# Altium footprint library Diod.PcbLib: 392 footprints (part 24 of 25)
Each footprint in its own frame and in the unit in brackets; x right, y up, seen from the top. Pads: shape width x height; smd on the part's side, far side on the other; paste and mask are expansions set on the pad; w line width, h text height; cw(c..) or ccw(c..) is an arc to the next point about the centre after c.
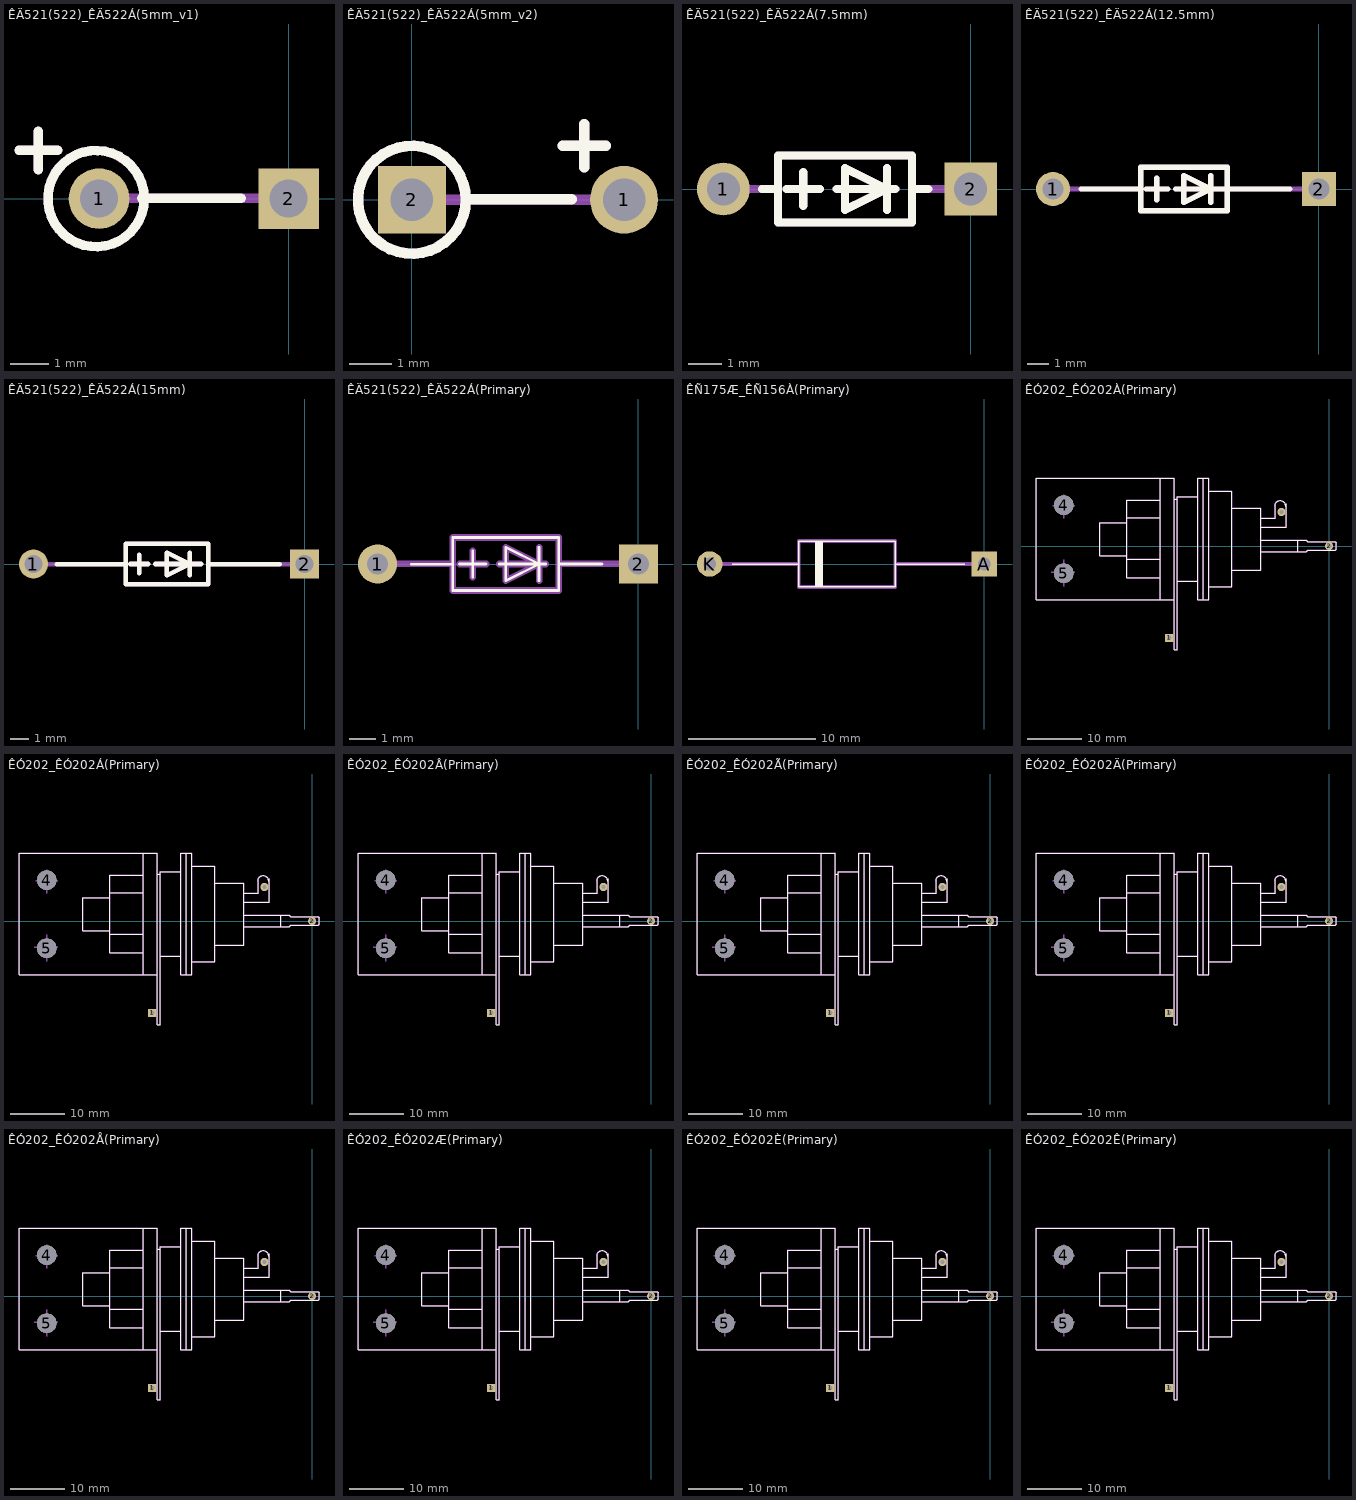
[diagram p23: the footprints below, top view; thin cyan lines are the x and y axes]

## ÊÄ521(522)_ÊÄ522Á(5mm_v1) [mm]
pads (2):
  round 1.6 hole 1: 1(-5,0)
  rect 1.6x1.6 hole 1: 2(0,0)
Top Overlay:
  circle w0.25: c-5.08,0 r1.27
  lines w0.25: -7.112,1.27 -6.096,1.27 ; -6.604,0.762 -6.604,1.778 ; -3.877,0.007 -1.251,0.007
Mechanical 1:
  circle w0.25: c-5.08,0 r1.27
  lines w0.25: -7.112,1.27 -6.096,1.27 ; -6.604,0.762 -6.604,1.778 ; -4.77,0.01 -0.42,0.01

## ÊÄ521(522)_ÊÄ522Á(5mm_v2) [mm]
pads (2):
  round 1.6 hole 1: 1(5,0)
  rect 1.6x1.6 hole 1: 2(0,0)
Top Overlay:
  circle w0.25: c0,0 r1.27
  lines w0.25: 1.266,0.008 3.761,0.008 ; 3.556,1.27 4.572,1.27 ; 4.064,0.762 4.064,1.778
Mechanical 1:
  circle w0.25: c0,0 r1.27
  lines w0.25: 0,0 4.5,0 ; 3.556,1.27 4.572,1.27 ; 4.064,0.762 4.064,1.778

## ÊÄ521(522)_ÊÄ522Á(7.5mm) [mm]
pads (2):
  round 1.6 hole 1: 1(-7.5,0)
  rect 1.6x1.6 hole 1: 2(0,0)
Top Overlay:
  lines w0.25: -6.328,-0.001 -5.842,0 ; -5.588,0 -4.572,0 ; -5.08,-0.508 -5.08,0.508 ; -4.064,0 -2.286,0 ; -2.54,-0.635 -2.54,0.635 ; -1.778,0 -1.284,-0.001 ; -5.842,-1.016 -1.778,-1.016 -1.778,1.016 -5.842,1.016 -5.842,-1.016 ; -3.81,-0.635 -2.54,0 -3.81,0.635 -3.81,-0.635
Mechanical 1:
  lines w0.25: -7.499,-0.001 -5.842,0 ; -5.588,0 -4.572,0 ; -5.08,-0.508 -5.08,0.508 ; -4.064,0 -2.286,0 ; -2.54,-0.635 -2.54,0.635 ; -1.778,0 0.001,-0.001 ; -5.842,-1.016 -1.778,-1.016 -1.778,1.016 -5.842,1.016 -5.842,-1.016 ; -3.81,-0.635 -2.54,0 -3.81,0.635 -3.81,-0.635

## ÊÄ521(522)_ÊÄ522Á(12.5mm) [mm]
pads (2):
  round 1.6 hole 1: 1(-12.5,0)
  rect 1.6x1.6 hole 1: 2(0,0)
Top Overlay:
  lines w0.25: -11.187,0 -8.382,0 ; -8.128,0 -7.112,0 ; -7.62,-0.508 -7.62,0.508 ; -6.731,0 -6.35,0 -4.445,0 ; -5.08,-0.635 -5.08,0.635 ; -4.318,0 -1.371,0 ; -8.382,-1.016 -4.318,-1.016 -4.318,1.016 -8.382,1.016 -8.382,-1.016 ; -6.35,-0.635 -5.08,0 -6.35,0.635 -6.35,-0.635
Mechanical 1:
  lines w0.25: -12.503,0 -8.382,0 ; -8.128,0 -7.112,0 ; -7.62,-0.508 -7.62,0.508 ; -6.731,0 -6.35,0 -4.445,0 ; -5.08,-0.635 -5.08,0.635 ; -4.318,0 0,0.006 ; -8.382,-1.016 -4.318,-1.016 -4.318,1.016 -8.382,1.016 -8.382,-1.016 ; -6.35,-0.635 -5.08,0 -6.35,0.635 -6.35,-0.635

## ÊÄ521(522)_ÊÄ522Á(15mm) [mm]
pads (2):
  round 1.6 hole 1: 1(-15,0)
  rect 1.6x1.6 hole 1: 2(0,0)
Top Overlay:
  lines w0.25: -13.714,-0.001 -9.906,0 ; -9.652,0 -8.636,0 ; -9.144,-0.508 -9.144,0.508 ; -8.255,0 -5.715,0 ; -6.35,-0.635 -6.35,0.635 ; -5.334,0 -1.361,-0.004 ; -9.906,-1.118 -5.334,-1.118 -5.334,1.118 -9.906,1.118 -9.906,-1.118 ; -7.62,-0.635 -7.62,0.635 -6.35,0 -7.62,-0.635
Mechanical 1:
  lines w0.25: -15.003,-0.004 -9.906,0 ; -9.652,0 -8.636,0 ; -9.144,-0.508 -9.144,0.508 ; -8.255,0 -5.715,0 ; -6.35,-0.635 -6.35,0.635 ; -5.334,0 0,-0.004 ; -9.906,-1.118 -5.334,-1.118 -5.334,1.118 -9.906,1.118 -9.906,-1.118 ; -7.62,-0.635 -7.62,0.635 -6.35,0 -7.62,-0.635

## ÊÄ521(522)_ÊÄ522Á(Primary) [mm]
pads (2):
  round 1.5 hole 0.8: 1(-10,0)
  rect 1.5x1.5 hole 0.8: 2(0,0)
Top Overlay:
  lines w0.1: -8.707,-0.004 -7.112,0 ; -6.858,0 -5.842,0 ; -6.35,-0.508 -6.35,0.508 ; -5.334,0 -3.556,0 ; -3.81,-0.635 -3.81,0.635 ; -3.048,0 -1.398,-0.002 ; -7.112,-1.016 -3.048,-1.016 -3.048,1.016 -7.112,1.016 -7.112,-1.016 ; -5.08,-0.635 -3.81,0 -5.08,0.635 -5.08,-0.635
Mechanical 1:
  lines w0.25: -10.002,0.003 -7.112,0 ; -6.858,0 -5.842,0 ; -6.35,-0.508 -6.35,0.508 ; -5.334,0 -3.556,0 ; -3.81,-0.635 -3.81,0.635 ; -3.048,0 0,0.003 ; -7.112,-1.016 -3.048,-1.016 -3.048,1.016 -7.112,1.016 -7.112,-1.016 ; -5.08,-0.635 -3.81,0 -5.08,0.635 -5.08,-0.635

## ÊÑ175Æ_ÊÑ156À(Primary) [mm]
pads (2):
  rect 2x2 hole 1: A(0,0)
  round 2 hole 1: K(-21.6,0)
Top Overlay:
  region: -13.3,-1.8 -12.7,-1.8 -12.7,1.8 -13.3,1.8
  lines w0.1: -19.812,0 -14.6,0 ; -1.524,0 -7,0 ; -7,0 -7,1.8 -14.6,1.8 -14.6,-1.8 -7,-1.8 -7,0
Mechanical 1:
  region: -13.3,-1.8 -12.7,-1.8 -12.7,1.8 -13.3,1.8
  lines w0.3: -21.6,0 -14.6,0 ; 0,0 -7,0 ; -7,0 -7,1.8 -14.6,1.8 -14.6,-1.8 -7,-1.8 -7,0

## ÊÓ202_ÊÓ202À(Primary) [mm]
pads (5):
  rect 1.5x1.5 hole 0.8: 1(-29.375,-16.875)
  round 1.5 hole 0.8: 2(0,0) UE(-8.75,6.25)
  round 3.6 hole 3.6 unplated: 4(-48.75,7.5) 5(-48.75,-5)
Top Overlay:
  lines w0.1: -37.211,-2.413 -31.115,-2.413 ; -37.211,4.191 -37.211,-1.778 ; -37.084,5.207 -31.115,5.207 ; -28.448,-9.906 -30.988,-9.906 ; -27.94,-6.477 -24.13,-6.477 -24.13,9.017 -27.94,9.017 -27.94,8.509 ; -22.098,-7.493 -17.907,-7.493 -17.907,10.033 -22.098,10.033 ; -17.907,-4.445 -12.573,-4.445 -12.573,6.985 -17.907,6.985 ; -12.573,-1.016 -5.715,-1.016 ; -12.573,1.016 -5.715,1.016 ; -12.573,3.429 -7.874,3.429 -7.874,7.747 ; -12.573,5.08 -9.906,5.08 -9.906,7.747 ; -10.006,7.289 cw(c-8.99,7.287) -7.974,7.287 ; -37.211,-1.778 -42.164,-1.778 -42.164,4.318 -37.211,4.318 -37.211,8.382 -30.988,8.382 ; -37.211,-1.778 -37.211,-5.842 -30.988,-5.842 ; -30.988,-9.906 -53.848,-9.906 -53.848,12.446 -51.308,12.446 -30.988,12.446 ; -30.988,-9.906 -30.988,-5.842 ; -30.988,-5.842 -30.988,8.382 ; -30.988,8.382 -30.988,12.446 ; -30.988,12.446 -28.448,12.446 -28.448,8.636 ; -28.448,8.636 -28.448,-19.05 -27.94,-19.05 -27.94,8.636 -28.448,8.636 ; -23.114,-9.906 -23.114,12.446 ; -23.114,-9.906 -23.114,12.446 ; -23.114,-9.906 -22.098,-9.906 -22.098,12.446 -23.114,12.446 ; -23.114,-9.906 -24.13,-9.906 -24.13,12.446 -23.114,12.446 ; -5.715,-1.016 -5.715,1.016 ; -5.715,-1.016 -4.191,-1.016 -3.937,-0.762 1.143,-0.762 1.27,-0.635 1.27,0.635 1.143,0.762 -3.937,0.762 -4.191,1.016 -5.715,1.016
Mechanical 1:
  circle w0.25: c0.003,-0.03 r0.463
  circle w0.25: c0.003,-0.03 r0.463
  lines w0.25: -51.054,-4.826 -46.736,-4.826 ; -50.8,7.366 -46.736,7.366 ; -48.768,-7.366 -48.768,-2.54 ; -48.768,5.08 -48.768,9.398 ; -37.211,-2.413 -31.115,-2.413 ; -37.211,4.191 -37.211,-1.778 ; -37.084,5.207 -31.115,5.207 ; -28.448,-9.906 -30.988,-9.906 ; -27.94,-6.477 -24.13,-6.477 -24.13,9.017 -27.94,9.017 -27.94,8.509 ; -22.098,-7.493 -17.907,-7.493 -17.907,10.033 -22.098,10.033 ; -17.907,-4.445 -12.573,-4.445 -12.573,6.985 -17.907,6.985 ; -12.573,-1.016 -5.715,-1.016 ; -12.573,1.016 -5.715,1.016 ; -12.573,3.429 -7.874,3.429 -7.874,7.747 ; -12.573,5.08 -9.906,5.08 -9.906,7.747 ; -10.006,7.289 cw(c-8.99,7.287) -7.974,7.287 ; -37.211,-1.778 -42.164,-1.778 -42.164,4.318 -37.211,4.318 -37.211,8.382 -30.988,8.382 ; -37.211,-1.778 -37.211,-5.842 -30.988,-5.842 ; -30.988,-9.906 -53.848,-9.906 -53.848,12.446 -51.308,12.446 -30.988,12.446 ; -30.988,-9.906 -30.988,-5.842 ; -30.988,-5.842 -30.988,8.382 ; -30.988,8.382 -30.988,12.446 ; -30.988,12.446 -28.448,12.446 -28.448,8.636 ; -28.448,8.636 -28.448,-19.05 -27.94,-19.05 -27.94,8.636 -28.448,8.636 ; -23.114,-9.906 -23.114,12.446 ; -23.114,-9.906 -23.114,12.446 ; -23.114,-9.906 -22.098,-9.906 -22.098,12.446 -23.114,12.446 ; -23.114,-9.906 -24.13,-9.906 -24.13,12.446 -23.114,12.446 ; -5.715,-1.016 -5.715,1.016 ; -5.715,-1.016 -4.191,-1.016 -3.937,-0.762 1.143,-0.762 1.27,-0.635 1.27,0.635 1.143,0.762 -3.937,0.762 -4.191,1.016 -5.715,1.016

## ÊÓ202_ÊÓ202Á(Primary) [mm]
pads (5):
  rect 1.5x1.5 hole 0.8: 1(-29.375,-16.875)
  round 1.5 hole 0.8: 2(0,0) UE(-8.75,6.25)
  round 3.6 hole 3.6 unplated: 4(-48.75,7.5) 5(-48.75,-5)
Top Overlay:
  lines w0.1: -37.211,-2.413 -31.115,-2.413 ; -37.211,4.191 -37.211,-1.778 ; -37.084,5.207 -31.115,5.207 ; -28.448,-9.906 -30.988,-9.906 ; -27.94,-6.477 -24.13,-6.477 -24.13,9.017 -27.94,9.017 -27.94,8.509 ; -22.098,-7.493 -17.907,-7.493 -17.907,10.033 -22.098,10.033 ; -17.907,-4.445 -12.573,-4.445 -12.573,6.985 -17.907,6.985 ; -12.573,-1.016 -5.715,-1.016 ; -12.573,1.016 -5.715,1.016 ; -12.573,3.429 -7.874,3.429 -7.874,7.747 ; -12.573,5.08 -9.906,5.08 -9.906,7.747 ; -10.006,7.289 cw(c-8.99,7.287) -7.974,7.287 ; -37.211,-1.778 -42.164,-1.778 -42.164,4.318 -37.211,4.318 -37.211,8.382 -30.988,8.382 ; -37.211,-1.778 -37.211,-5.842 -30.988,-5.842 ; -30.988,-9.906 -53.848,-9.906 -53.848,12.446 -51.308,12.446 -30.988,12.446 ; -30.988,-9.906 -30.988,-5.842 ; -30.988,-5.842 -30.988,8.382 ; -30.988,8.382 -30.988,12.446 ; -30.988,12.446 -28.448,12.446 -28.448,8.636 ; -28.448,8.636 -28.448,-19.05 -27.94,-19.05 -27.94,8.636 -28.448,8.636 ; -23.114,-9.906 -23.114,12.446 ; -23.114,-9.906 -23.114,12.446 ; -23.114,-9.906 -22.098,-9.906 -22.098,12.446 -23.114,12.446 ; -23.114,-9.906 -24.13,-9.906 -24.13,12.446 -23.114,12.446 ; -5.715,-1.016 -5.715,1.016 ; -5.715,-1.016 -4.191,-1.016 -3.937,-0.762 1.143,-0.762 1.27,-0.635 1.27,0.635 1.143,0.762 -3.937,0.762 -4.191,1.016 -5.715,1.016
Mechanical 1:
  circle w0.25: c0.003,-0.03 r0.463
  circle w0.25: c0.003,-0.03 r0.463
  lines w0.25: -51.054,-4.826 -46.736,-4.826 ; -50.8,7.366 -46.736,7.366 ; -48.768,-7.366 -48.768,-2.54 ; -48.768,5.08 -48.768,9.398 ; -37.211,-2.413 -31.115,-2.413 ; -37.211,4.191 -37.211,-1.778 ; -37.084,5.207 -31.115,5.207 ; -28.448,-9.906 -30.988,-9.906 ; -27.94,-6.477 -24.13,-6.477 -24.13,9.017 -27.94,9.017 -27.94,8.509 ; -22.098,-7.493 -17.907,-7.493 -17.907,10.033 -22.098,10.033 ; -17.907,-4.445 -12.573,-4.445 -12.573,6.985 -17.907,6.985 ; -12.573,-1.016 -5.715,-1.016 ; -12.573,1.016 -5.715,1.016 ; -12.573,3.429 -7.874,3.429 -7.874,7.747 ; -12.573,5.08 -9.906,5.08 -9.906,7.747 ; -10.006,7.289 cw(c-8.99,7.287) -7.974,7.287 ; -37.211,-1.778 -42.164,-1.778 -42.164,4.318 -37.211,4.318 -37.211,8.382 -30.988,8.382 ; -37.211,-1.778 -37.211,-5.842 -30.988,-5.842 ; -30.988,-9.906 -53.848,-9.906 -53.848,12.446 -51.308,12.446 -30.988,12.446 ; -30.988,-9.906 -30.988,-5.842 ; -30.988,-5.842 -30.988,8.382 ; -30.988,8.382 -30.988,12.446 ; -30.988,12.446 -28.448,12.446 -28.448,8.636 ; -28.448,8.636 -28.448,-19.05 -27.94,-19.05 -27.94,8.636 -28.448,8.636 ; -23.114,-9.906 -23.114,12.446 ; -23.114,-9.906 -23.114,12.446 ; -23.114,-9.906 -22.098,-9.906 -22.098,12.446 -23.114,12.446 ; -23.114,-9.906 -24.13,-9.906 -24.13,12.446 -23.114,12.446 ; -5.715,-1.016 -5.715,1.016 ; -5.715,-1.016 -4.191,-1.016 -3.937,-0.762 1.143,-0.762 1.27,-0.635 1.27,0.635 1.143,0.762 -3.937,0.762 -4.191,1.016 -5.715,1.016

## ÊÓ202_ÊÓ202Â(Primary) [mm]
pads (5):
  rect 1.5x1.5 hole 0.8: 1(-29.375,-16.875)
  round 1.5 hole 0.8: 2(0,0) UE(-8.75,6.25)
  round 3.6 hole 3.6 unplated: 4(-48.75,7.5) 5(-48.75,-5)
Top Overlay:
  lines w0.1: -37.211,-2.413 -31.115,-2.413 ; -37.211,4.191 -37.211,-1.778 ; -37.084,5.207 -31.115,5.207 ; -28.448,-9.906 -30.988,-9.906 ; -27.94,-6.477 -24.13,-6.477 -24.13,9.017 -27.94,9.017 -27.94,8.509 ; -22.098,-7.493 -17.907,-7.493 -17.907,10.033 -22.098,10.033 ; -17.907,-4.445 -12.573,-4.445 -12.573,6.985 -17.907,6.985 ; -12.573,-1.016 -5.715,-1.016 ; -12.573,1.016 -5.715,1.016 ; -12.573,3.429 -7.874,3.429 -7.874,7.747 ; -12.573,5.08 -9.906,5.08 -9.906,7.747 ; -10.006,7.289 cw(c-8.99,7.287) -7.974,7.287 ; -37.211,-1.778 -42.164,-1.778 -42.164,4.318 -37.211,4.318 -37.211,8.382 -30.988,8.382 ; -37.211,-1.778 -37.211,-5.842 -30.988,-5.842 ; -30.988,-9.906 -53.848,-9.906 -53.848,12.446 -51.308,12.446 -30.988,12.446 ; -30.988,-9.906 -30.988,-5.842 ; -30.988,-5.842 -30.988,8.382 ; -30.988,8.382 -30.988,12.446 ; -30.988,12.446 -28.448,12.446 -28.448,8.636 ; -28.448,8.636 -28.448,-19.05 -27.94,-19.05 -27.94,8.636 -28.448,8.636 ; -23.114,-9.906 -23.114,12.446 ; -23.114,-9.906 -23.114,12.446 ; -23.114,-9.906 -22.098,-9.906 -22.098,12.446 -23.114,12.446 ; -23.114,-9.906 -24.13,-9.906 -24.13,12.446 -23.114,12.446 ; -5.715,-1.016 -5.715,1.016 ; -5.715,-1.016 -4.191,-1.016 -3.937,-0.762 1.143,-0.762 1.27,-0.635 1.27,0.635 1.143,0.762 -3.937,0.762 -4.191,1.016 -5.715,1.016
Mechanical 1:
  circle w0.25: c0.003,-0.03 r0.463
  circle w0.25: c0.003,-0.03 r0.463
  lines w0.25: -51.054,-4.826 -46.736,-4.826 ; -50.8,7.366 -46.736,7.366 ; -48.768,-7.366 -48.768,-2.54 ; -48.768,5.08 -48.768,9.398 ; -37.211,-2.413 -31.115,-2.413 ; -37.211,4.191 -37.211,-1.778 ; -37.084,5.207 -31.115,5.207 ; -28.448,-9.906 -30.988,-9.906 ; -27.94,-6.477 -24.13,-6.477 -24.13,9.017 -27.94,9.017 -27.94,8.509 ; -22.098,-7.493 -17.907,-7.493 -17.907,10.033 -22.098,10.033 ; -17.907,-4.445 -12.573,-4.445 -12.573,6.985 -17.907,6.985 ; -12.573,-1.016 -5.715,-1.016 ; -12.573,1.016 -5.715,1.016 ; -12.573,3.429 -7.874,3.429 -7.874,7.747 ; -12.573,5.08 -9.906,5.08 -9.906,7.747 ; -10.006,7.289 cw(c-8.99,7.287) -7.974,7.287 ; -37.211,-1.778 -42.164,-1.778 -42.164,4.318 -37.211,4.318 -37.211,8.382 -30.988,8.382 ; -37.211,-1.778 -37.211,-5.842 -30.988,-5.842 ; -30.988,-9.906 -53.848,-9.906 -53.848,12.446 -51.308,12.446 -30.988,12.446 ; -30.988,-9.906 -30.988,-5.842 ; -30.988,-5.842 -30.988,8.382 ; -30.988,8.382 -30.988,12.446 ; -30.988,12.446 -28.448,12.446 -28.448,8.636 ; -28.448,8.636 -28.448,-19.05 -27.94,-19.05 -27.94,8.636 -28.448,8.636 ; -23.114,-9.906 -23.114,12.446 ; -23.114,-9.906 -23.114,12.446 ; -23.114,-9.906 -22.098,-9.906 -22.098,12.446 -23.114,12.446 ; -23.114,-9.906 -24.13,-9.906 -24.13,12.446 -23.114,12.446 ; -5.715,-1.016 -5.715,1.016 ; -5.715,-1.016 -4.191,-1.016 -3.937,-0.762 1.143,-0.762 1.27,-0.635 1.27,0.635 1.143,0.762 -3.937,0.762 -4.191,1.016 -5.715,1.016

## ÊÓ202_ÊÓ202Ã(Primary) [mm]
pads (5):
  rect 1.5x1.5 hole 0.8: 1(-29.375,-16.875)
  round 1.5 hole 0.8: 2(0,0) UE(-8.75,6.25)
  round 3.6 hole 3.6 unplated: 4(-48.75,7.5) 5(-48.75,-5)
Top Overlay:
  lines w0.1: -37.211,-2.413 -31.115,-2.413 ; -37.211,4.191 -37.211,-1.778 ; -37.084,5.207 -31.115,5.207 ; -28.448,-9.906 -30.988,-9.906 ; -27.94,-6.477 -24.13,-6.477 -24.13,9.017 -27.94,9.017 -27.94,8.509 ; -22.098,-7.493 -17.907,-7.493 -17.907,10.033 -22.098,10.033 ; -17.907,-4.445 -12.573,-4.445 -12.573,6.985 -17.907,6.985 ; -12.573,-1.016 -5.715,-1.016 ; -12.573,1.016 -5.715,1.016 ; -12.573,3.429 -7.874,3.429 -7.874,7.747 ; -12.573,5.08 -9.906,5.08 -9.906,7.747 ; -10.006,7.289 cw(c-8.99,7.287) -7.974,7.287 ; -37.211,-1.778 -42.164,-1.778 -42.164,4.318 -37.211,4.318 -37.211,8.382 -30.988,8.382 ; -37.211,-1.778 -37.211,-5.842 -30.988,-5.842 ; -30.988,-9.906 -53.848,-9.906 -53.848,12.446 -51.308,12.446 -30.988,12.446 ; -30.988,-9.906 -30.988,-5.842 ; -30.988,-5.842 -30.988,8.382 ; -30.988,8.382 -30.988,12.446 ; -30.988,12.446 -28.448,12.446 -28.448,8.636 ; -28.448,8.636 -28.448,-19.05 -27.94,-19.05 -27.94,8.636 -28.448,8.636 ; -23.114,-9.906 -23.114,12.446 ; -23.114,-9.906 -23.114,12.446 ; -23.114,-9.906 -22.098,-9.906 -22.098,12.446 -23.114,12.446 ; -23.114,-9.906 -24.13,-9.906 -24.13,12.446 -23.114,12.446 ; -5.715,-1.016 -5.715,1.016 ; -5.715,-1.016 -4.191,-1.016 -3.937,-0.762 1.143,-0.762 1.27,-0.635 1.27,0.635 1.143,0.762 -3.937,0.762 -4.191,1.016 -5.715,1.016
Mechanical 1:
  circle w0.25: c0.003,-0.03 r0.463
  circle w0.25: c0.003,-0.03 r0.463
  lines w0.25: -51.054,-4.826 -46.736,-4.826 ; -50.8,7.366 -46.736,7.366 ; -48.768,-7.366 -48.768,-2.54 ; -48.768,5.08 -48.768,9.398 ; -37.211,-2.413 -31.115,-2.413 ; -37.211,4.191 -37.211,-1.778 ; -37.084,5.207 -31.115,5.207 ; -28.448,-9.906 -30.988,-9.906 ; -27.94,-6.477 -24.13,-6.477 -24.13,9.017 -27.94,9.017 -27.94,8.509 ; -22.098,-7.493 -17.907,-7.493 -17.907,10.033 -22.098,10.033 ; -17.907,-4.445 -12.573,-4.445 -12.573,6.985 -17.907,6.985 ; -12.573,-1.016 -5.715,-1.016 ; -12.573,1.016 -5.715,1.016 ; -12.573,3.429 -7.874,3.429 -7.874,7.747 ; -12.573,5.08 -9.906,5.08 -9.906,7.747 ; -10.006,7.289 cw(c-8.99,7.287) -7.974,7.287 ; -37.211,-1.778 -42.164,-1.778 -42.164,4.318 -37.211,4.318 -37.211,8.382 -30.988,8.382 ; -37.211,-1.778 -37.211,-5.842 -30.988,-5.842 ; -30.988,-9.906 -53.848,-9.906 -53.848,12.446 -51.308,12.446 -30.988,12.446 ; -30.988,-9.906 -30.988,-5.842 ; -30.988,-5.842 -30.988,8.382 ; -30.988,8.382 -30.988,12.446 ; -30.988,12.446 -28.448,12.446 -28.448,8.636 ; -28.448,8.636 -28.448,-19.05 -27.94,-19.05 -27.94,8.636 -28.448,8.636 ; -23.114,-9.906 -23.114,12.446 ; -23.114,-9.906 -23.114,12.446 ; -23.114,-9.906 -22.098,-9.906 -22.098,12.446 -23.114,12.446 ; -23.114,-9.906 -24.13,-9.906 -24.13,12.446 -23.114,12.446 ; -5.715,-1.016 -5.715,1.016 ; -5.715,-1.016 -4.191,-1.016 -3.937,-0.762 1.143,-0.762 1.27,-0.635 1.27,0.635 1.143,0.762 -3.937,0.762 -4.191,1.016 -5.715,1.016

## ÊÓ202_ÊÓ202Ä(Primary) [mm]
pads (5):
  rect 1.5x1.5 hole 0.8: 1(-29.375,-16.875)
  round 1.5 hole 0.8: 2(0,0) UE(-8.75,6.25)
  round 3.6 hole 3.6 unplated: 4(-48.75,7.5) 5(-48.75,-5)
Top Overlay:
  lines w0.1: -37.211,-2.413 -31.115,-2.413 ; -37.211,4.191 -37.211,-1.778 ; -37.084,5.207 -31.115,5.207 ; -28.448,-9.906 -30.988,-9.906 ; -27.94,-6.477 -24.13,-6.477 -24.13,9.017 -27.94,9.017 -27.94,8.509 ; -22.098,-7.493 -17.907,-7.493 -17.907,10.033 -22.098,10.033 ; -17.907,-4.445 -12.573,-4.445 -12.573,6.985 -17.907,6.985 ; -12.573,-1.016 -5.715,-1.016 ; -12.573,1.016 -5.715,1.016 ; -12.573,3.429 -7.874,3.429 -7.874,7.747 ; -12.573,5.08 -9.906,5.08 -9.906,7.747 ; -10.006,7.289 cw(c-8.99,7.287) -7.974,7.287 ; -37.211,-1.778 -42.164,-1.778 -42.164,4.318 -37.211,4.318 -37.211,8.382 -30.988,8.382 ; -37.211,-1.778 -37.211,-5.842 -30.988,-5.842 ; -30.988,-9.906 -53.848,-9.906 -53.848,12.446 -51.308,12.446 -30.988,12.446 ; -30.988,-9.906 -30.988,-5.842 ; -30.988,-5.842 -30.988,8.382 ; -30.988,8.382 -30.988,12.446 ; -30.988,12.446 -28.448,12.446 -28.448,8.636 ; -28.448,8.636 -28.448,-19.05 -27.94,-19.05 -27.94,8.636 -28.448,8.636 ; -23.114,-9.906 -23.114,12.446 ; -23.114,-9.906 -23.114,12.446 ; -23.114,-9.906 -22.098,-9.906 -22.098,12.446 -23.114,12.446 ; -23.114,-9.906 -24.13,-9.906 -24.13,12.446 -23.114,12.446 ; -5.715,-1.016 -5.715,1.016 ; -5.715,-1.016 -4.191,-1.016 -3.937,-0.762 1.143,-0.762 1.27,-0.635 1.27,0.635 1.143,0.762 -3.937,0.762 -4.191,1.016 -5.715,1.016
Mechanical 1:
  circle w0.25: c0.003,-0.03 r0.463
  circle w0.25: c0.003,-0.03 r0.463
  lines w0.25: -51.054,-4.826 -46.736,-4.826 ; -50.8,7.366 -46.736,7.366 ; -48.768,-7.366 -48.768,-2.54 ; -48.768,5.08 -48.768,9.398 ; -37.211,-2.413 -31.115,-2.413 ; -37.211,4.191 -37.211,-1.778 ; -37.084,5.207 -31.115,5.207 ; -28.448,-9.906 -30.988,-9.906 ; -27.94,-6.477 -24.13,-6.477 -24.13,9.017 -27.94,9.017 -27.94,8.509 ; -22.098,-7.493 -17.907,-7.493 -17.907,10.033 -22.098,10.033 ; -17.907,-4.445 -12.573,-4.445 -12.573,6.985 -17.907,6.985 ; -12.573,-1.016 -5.715,-1.016 ; -12.573,1.016 -5.715,1.016 ; -12.573,3.429 -7.874,3.429 -7.874,7.747 ; -12.573,5.08 -9.906,5.08 -9.906,7.747 ; -10.006,7.289 cw(c-8.99,7.287) -7.974,7.287 ; -37.211,-1.778 -42.164,-1.778 -42.164,4.318 -37.211,4.318 -37.211,8.382 -30.988,8.382 ; -37.211,-1.778 -37.211,-5.842 -30.988,-5.842 ; -30.988,-9.906 -53.848,-9.906 -53.848,12.446 -51.308,12.446 -30.988,12.446 ; -30.988,-9.906 -30.988,-5.842 ; -30.988,-5.842 -30.988,8.382 ; -30.988,8.382 -30.988,12.446 ; -30.988,12.446 -28.448,12.446 -28.448,8.636 ; -28.448,8.636 -28.448,-19.05 -27.94,-19.05 -27.94,8.636 -28.448,8.636 ; -23.114,-9.906 -23.114,12.446 ; -23.114,-9.906 -23.114,12.446 ; -23.114,-9.906 -22.098,-9.906 -22.098,12.446 -23.114,12.446 ; -23.114,-9.906 -24.13,-9.906 -24.13,12.446 -23.114,12.446 ; -5.715,-1.016 -5.715,1.016 ; -5.715,-1.016 -4.191,-1.016 -3.937,-0.762 1.143,-0.762 1.27,-0.635 1.27,0.635 1.143,0.762 -3.937,0.762 -4.191,1.016 -5.715,1.016

## ÊÓ202_ÊÓ202Å(Primary) [mm]
pads (5):
  rect 1.5x1.5 hole 0.8: 1(-29.375,-16.875)
  round 1.5 hole 0.8: 2(0,0) UE(-8.75,6.25)
  round 3.6 hole 3.6 unplated: 4(-48.75,7.5) 5(-48.75,-5)
Top Overlay:
  lines w0.1: -37.211,-2.413 -31.115,-2.413 ; -37.211,4.191 -37.211,-1.778 ; -37.084,5.207 -31.115,5.207 ; -28.448,-9.906 -30.988,-9.906 ; -27.94,-6.477 -24.13,-6.477 -24.13,9.017 -27.94,9.017 -27.94,8.509 ; -22.098,-7.493 -17.907,-7.493 -17.907,10.033 -22.098,10.033 ; -17.907,-4.445 -12.573,-4.445 -12.573,6.985 -17.907,6.985 ; -12.573,-1.016 -5.715,-1.016 ; -12.573,1.016 -5.715,1.016 ; -12.573,3.429 -7.874,3.429 -7.874,7.747 ; -12.573,5.08 -9.906,5.08 -9.906,7.747 ; -10.006,7.289 cw(c-8.99,7.287) -7.974,7.287 ; -37.211,-1.778 -42.164,-1.778 -42.164,4.318 -37.211,4.318 -37.211,8.382 -30.988,8.382 ; -37.211,-1.778 -37.211,-5.842 -30.988,-5.842 ; -30.988,-9.906 -53.848,-9.906 -53.848,12.446 -51.308,12.446 -30.988,12.446 ; -30.988,-9.906 -30.988,-5.842 ; -30.988,-5.842 -30.988,8.382 ; -30.988,8.382 -30.988,12.446 ; -30.988,12.446 -28.448,12.446 -28.448,8.636 ; -28.448,8.636 -28.448,-19.05 -27.94,-19.05 -27.94,8.636 -28.448,8.636 ; -23.114,-9.906 -23.114,12.446 ; -23.114,-9.906 -23.114,12.446 ; -23.114,-9.906 -22.098,-9.906 -22.098,12.446 -23.114,12.446 ; -23.114,-9.906 -24.13,-9.906 -24.13,12.446 -23.114,12.446 ; -5.715,-1.016 -5.715,1.016 ; -5.715,-1.016 -4.191,-1.016 -3.937,-0.762 1.143,-0.762 1.27,-0.635 1.27,0.635 1.143,0.762 -3.937,0.762 -4.191,1.016 -5.715,1.016
Mechanical 1:
  circle w0.25: c0.003,-0.03 r0.463
  circle w0.25: c0.003,-0.03 r0.463
  lines w0.25: -51.054,-4.826 -46.736,-4.826 ; -50.8,7.366 -46.736,7.366 ; -48.768,-7.366 -48.768,-2.54 ; -48.768,5.08 -48.768,9.398 ; -37.211,-2.413 -31.115,-2.413 ; -37.211,4.191 -37.211,-1.778 ; -37.084,5.207 -31.115,5.207 ; -28.448,-9.906 -30.988,-9.906 ; -27.94,-6.477 -24.13,-6.477 -24.13,9.017 -27.94,9.017 -27.94,8.509 ; -22.098,-7.493 -17.907,-7.493 -17.907,10.033 -22.098,10.033 ; -17.907,-4.445 -12.573,-4.445 -12.573,6.985 -17.907,6.985 ; -12.573,-1.016 -5.715,-1.016 ; -12.573,1.016 -5.715,1.016 ; -12.573,3.429 -7.874,3.429 -7.874,7.747 ; -12.573,5.08 -9.906,5.08 -9.906,7.747 ; -10.006,7.289 cw(c-8.99,7.287) -7.974,7.287 ; -37.211,-1.778 -42.164,-1.778 -42.164,4.318 -37.211,4.318 -37.211,8.382 -30.988,8.382 ; -37.211,-1.778 -37.211,-5.842 -30.988,-5.842 ; -30.988,-9.906 -53.848,-9.906 -53.848,12.446 -51.308,12.446 -30.988,12.446 ; -30.988,-9.906 -30.988,-5.842 ; -30.988,-5.842 -30.988,8.382 ; -30.988,8.382 -30.988,12.446 ; -30.988,12.446 -28.448,12.446 -28.448,8.636 ; -28.448,8.636 -28.448,-19.05 -27.94,-19.05 -27.94,8.636 -28.448,8.636 ; -23.114,-9.906 -23.114,12.446 ; -23.114,-9.906 -23.114,12.446 ; -23.114,-9.906 -22.098,-9.906 -22.098,12.446 -23.114,12.446 ; -23.114,-9.906 -24.13,-9.906 -24.13,12.446 -23.114,12.446 ; -5.715,-1.016 -5.715,1.016 ; -5.715,-1.016 -4.191,-1.016 -3.937,-0.762 1.143,-0.762 1.27,-0.635 1.27,0.635 1.143,0.762 -3.937,0.762 -4.191,1.016 -5.715,1.016

## ÊÓ202_ÊÓ202Æ(Primary) [mm]
pads (5):
  rect 1.5x1.5 hole 0.8: 1(-29.375,-16.875)
  round 1.5 hole 0.8: 2(0,0) UE(-8.75,6.25)
  round 3.6 hole 3.6 unplated: 4(-48.75,7.5) 5(-48.75,-5)
Top Overlay:
  lines w0.1: -37.211,-2.413 -31.115,-2.413 ; -37.211,4.191 -37.211,-1.778 ; -37.084,5.207 -31.115,5.207 ; -28.448,-9.906 -30.988,-9.906 ; -27.94,-6.477 -24.13,-6.477 -24.13,9.017 -27.94,9.017 -27.94,8.509 ; -22.098,-7.493 -17.907,-7.493 -17.907,10.033 -22.098,10.033 ; -17.907,-4.445 -12.573,-4.445 -12.573,6.985 -17.907,6.985 ; -12.573,-1.016 -5.715,-1.016 ; -12.573,1.016 -5.715,1.016 ; -12.573,3.429 -7.874,3.429 -7.874,7.747 ; -12.573,5.08 -9.906,5.08 -9.906,7.747 ; -10.006,7.289 cw(c-8.99,7.287) -7.974,7.287 ; -37.211,-1.778 -42.164,-1.778 -42.164,4.318 -37.211,4.318 -37.211,8.382 -30.988,8.382 ; -37.211,-1.778 -37.211,-5.842 -30.988,-5.842 ; -30.988,-9.906 -53.848,-9.906 -53.848,12.446 -51.308,12.446 -30.988,12.446 ; -30.988,-9.906 -30.988,-5.842 ; -30.988,-5.842 -30.988,8.382 ; -30.988,8.382 -30.988,12.446 ; -30.988,12.446 -28.448,12.446 -28.448,8.636 ; -28.448,8.636 -28.448,-19.05 -27.94,-19.05 -27.94,8.636 -28.448,8.636 ; -23.114,-9.906 -23.114,12.446 ; -23.114,-9.906 -23.114,12.446 ; -23.114,-9.906 -22.098,-9.906 -22.098,12.446 -23.114,12.446 ; -23.114,-9.906 -24.13,-9.906 -24.13,12.446 -23.114,12.446 ; -5.715,-1.016 -5.715,1.016 ; -5.715,-1.016 -4.191,-1.016 -3.937,-0.762 1.143,-0.762 1.27,-0.635 1.27,0.635 1.143,0.762 -3.937,0.762 -4.191,1.016 -5.715,1.016
Mechanical 1:
  circle w0.25: c0.003,-0.03 r0.463
  circle w0.25: c0.003,-0.03 r0.463
  lines w0.25: -51.054,-4.826 -46.736,-4.826 ; -50.8,7.366 -46.736,7.366 ; -48.768,-7.366 -48.768,-2.54 ; -48.768,5.08 -48.768,9.398 ; -37.211,-2.413 -31.115,-2.413 ; -37.211,4.191 -37.211,-1.778 ; -37.084,5.207 -31.115,5.207 ; -28.448,-9.906 -30.988,-9.906 ; -27.94,-6.477 -24.13,-6.477 -24.13,9.017 -27.94,9.017 -27.94,8.509 ; -22.098,-7.493 -17.907,-7.493 -17.907,10.033 -22.098,10.033 ; -17.907,-4.445 -12.573,-4.445 -12.573,6.985 -17.907,6.985 ; -12.573,-1.016 -5.715,-1.016 ; -12.573,1.016 -5.715,1.016 ; -12.573,3.429 -7.874,3.429 -7.874,7.747 ; -12.573,5.08 -9.906,5.08 -9.906,7.747 ; -10.006,7.289 cw(c-8.99,7.287) -7.974,7.287 ; -37.211,-1.778 -42.164,-1.778 -42.164,4.318 -37.211,4.318 -37.211,8.382 -30.988,8.382 ; -37.211,-1.778 -37.211,-5.842 -30.988,-5.842 ; -30.988,-9.906 -53.848,-9.906 -53.848,12.446 -51.308,12.446 -30.988,12.446 ; -30.988,-9.906 -30.988,-5.842 ; -30.988,-5.842 -30.988,8.382 ; -30.988,8.382 -30.988,12.446 ; -30.988,12.446 -28.448,12.446 -28.448,8.636 ; -28.448,8.636 -28.448,-19.05 -27.94,-19.05 -27.94,8.636 -28.448,8.636 ; -23.114,-9.906 -23.114,12.446 ; -23.114,-9.906 -23.114,12.446 ; -23.114,-9.906 -22.098,-9.906 -22.098,12.446 -23.114,12.446 ; -23.114,-9.906 -24.13,-9.906 -24.13,12.446 -23.114,12.446 ; -5.715,-1.016 -5.715,1.016 ; -5.715,-1.016 -4.191,-1.016 -3.937,-0.762 1.143,-0.762 1.27,-0.635 1.27,0.635 1.143,0.762 -3.937,0.762 -4.191,1.016 -5.715,1.016

## ÊÓ202_ÊÓ202È(Primary) [mm]
pads (5):
  rect 1.5x1.5 hole 0.8: 1(-29.375,-16.875)
  round 1.5 hole 0.8: 2(0,0) UE(-8.75,6.25)
  round 3.6 hole 3.6 unplated: 4(-48.75,7.5) 5(-48.75,-5)
Top Overlay:
  lines w0.1: -37.211,-2.413 -31.115,-2.413 ; -37.211,4.191 -37.211,-1.778 ; -37.084,5.207 -31.115,5.207 ; -28.448,-9.906 -30.988,-9.906 ; -27.94,-6.477 -24.13,-6.477 -24.13,9.017 -27.94,9.017 -27.94,8.509 ; -22.098,-7.493 -17.907,-7.493 -17.907,10.033 -22.098,10.033 ; -17.907,-4.445 -12.573,-4.445 -12.573,6.985 -17.907,6.985 ; -12.573,-1.016 -5.715,-1.016 ; -12.573,1.016 -5.715,1.016 ; -12.573,3.429 -7.874,3.429 -7.874,7.747 ; -12.573,5.08 -9.906,5.08 -9.906,7.747 ; -10.006,7.289 cw(c-8.99,7.287) -7.974,7.287 ; -37.211,-1.778 -42.164,-1.778 -42.164,4.318 -37.211,4.318 -37.211,8.382 -30.988,8.382 ; -37.211,-1.778 -37.211,-5.842 -30.988,-5.842 ; -30.988,-9.906 -53.848,-9.906 -53.848,12.446 -51.308,12.446 -30.988,12.446 ; -30.988,-9.906 -30.988,-5.842 ; -30.988,-5.842 -30.988,8.382 ; -30.988,8.382 -30.988,12.446 ; -30.988,12.446 -28.448,12.446 -28.448,8.636 ; -28.448,8.636 -28.448,-19.05 -27.94,-19.05 -27.94,8.636 -28.448,8.636 ; -23.114,-9.906 -23.114,12.446 ; -23.114,-9.906 -23.114,12.446 ; -23.114,-9.906 -22.098,-9.906 -22.098,12.446 -23.114,12.446 ; -23.114,-9.906 -24.13,-9.906 -24.13,12.446 -23.114,12.446 ; -5.715,-1.016 -5.715,1.016 ; -5.715,-1.016 -4.191,-1.016 -3.937,-0.762 1.143,-0.762 1.27,-0.635 1.27,0.635 1.143,0.762 -3.937,0.762 -4.191,1.016 -5.715,1.016
Mechanical 1:
  circle w0.25: c0.003,-0.03 r0.463
  circle w0.25: c0.003,-0.03 r0.463
  lines w0.25: -51.054,-4.826 -46.736,-4.826 ; -50.8,7.366 -46.736,7.366 ; -48.768,-7.366 -48.768,-2.54 ; -48.768,5.08 -48.768,9.398 ; -37.211,-2.413 -31.115,-2.413 ; -37.211,4.191 -37.211,-1.778 ; -37.084,5.207 -31.115,5.207 ; -28.448,-9.906 -30.988,-9.906 ; -27.94,-6.477 -24.13,-6.477 -24.13,9.017 -27.94,9.017 -27.94,8.509 ; -22.098,-7.493 -17.907,-7.493 -17.907,10.033 -22.098,10.033 ; -17.907,-4.445 -12.573,-4.445 -12.573,6.985 -17.907,6.985 ; -12.573,-1.016 -5.715,-1.016 ; -12.573,1.016 -5.715,1.016 ; -12.573,3.429 -7.874,3.429 -7.874,7.747 ; -12.573,5.08 -9.906,5.08 -9.906,7.747 ; -10.006,7.289 cw(c-8.99,7.287) -7.974,7.287 ; -37.211,-1.778 -42.164,-1.778 -42.164,4.318 -37.211,4.318 -37.211,8.382 -30.988,8.382 ; -37.211,-1.778 -37.211,-5.842 -30.988,-5.842 ; -30.988,-9.906 -53.848,-9.906 -53.848,12.446 -51.308,12.446 -30.988,12.446 ; -30.988,-9.906 -30.988,-5.842 ; -30.988,-5.842 -30.988,8.382 ; -30.988,8.382 -30.988,12.446 ; -30.988,12.446 -28.448,12.446 -28.448,8.636 ; -28.448,8.636 -28.448,-19.05 -27.94,-19.05 -27.94,8.636 -28.448,8.636 ; -23.114,-9.906 -23.114,12.446 ; -23.114,-9.906 -23.114,12.446 ; -23.114,-9.906 -22.098,-9.906 -22.098,12.446 -23.114,12.446 ; -23.114,-9.906 -24.13,-9.906 -24.13,12.446 -23.114,12.446 ; -5.715,-1.016 -5.715,1.016 ; -5.715,-1.016 -4.191,-1.016 -3.937,-0.762 1.143,-0.762 1.27,-0.635 1.27,0.635 1.143,0.762 -3.937,0.762 -4.191,1.016 -5.715,1.016

## ÊÓ202_ÊÓ202Ê(Primary) [mm]
pads (5):
  rect 1.5x1.5 hole 0.8: 1(-29.375,-16.875)
  round 1.5 hole 0.8: 2(0,0) UE(-8.75,6.25)
  round 3.6 hole 3.6 unplated: 4(-48.75,7.5) 5(-48.75,-5)
Top Overlay:
  lines w0.1: -37.211,-2.413 -31.115,-2.413 ; -37.211,4.191 -37.211,-1.778 ; -37.084,5.207 -31.115,5.207 ; -28.448,-9.906 -30.988,-9.906 ; -27.94,-6.477 -24.13,-6.477 -24.13,9.017 -27.94,9.017 -27.94,8.509 ; -22.098,-7.493 -17.907,-7.493 -17.907,10.033 -22.098,10.033 ; -17.907,-4.445 -12.573,-4.445 -12.573,6.985 -17.907,6.985 ; -12.573,-1.016 -5.715,-1.016 ; -12.573,1.016 -5.715,1.016 ; -12.573,3.429 -7.874,3.429 -7.874,7.747 ; -12.573,5.08 -9.906,5.08 -9.906,7.747 ; -10.006,7.289 cw(c-8.99,7.287) -7.974,7.287 ; -37.211,-1.778 -42.164,-1.778 -42.164,4.318 -37.211,4.318 -37.211,8.382 -30.988,8.382 ; -37.211,-1.778 -37.211,-5.842 -30.988,-5.842 ; -30.988,-9.906 -53.848,-9.906 -53.848,12.446 -51.308,12.446 -30.988,12.446 ; -30.988,-9.906 -30.988,-5.842 ; -30.988,-5.842 -30.988,8.382 ; -30.988,8.382 -30.988,12.446 ; -30.988,12.446 -28.448,12.446 -28.448,8.636 ; -28.448,8.636 -28.448,-19.05 -27.94,-19.05 -27.94,8.636 -28.448,8.636 ; -23.114,-9.906 -23.114,12.446 ; -23.114,-9.906 -23.114,12.446 ; -23.114,-9.906 -22.098,-9.906 -22.098,12.446 -23.114,12.446 ; -23.114,-9.906 -24.13,-9.906 -24.13,12.446 -23.114,12.446 ; -5.715,-1.016 -5.715,1.016 ; -5.715,-1.016 -4.191,-1.016 -3.937,-0.762 1.143,-0.762 1.27,-0.635 1.27,0.635 1.143,0.762 -3.937,0.762 -4.191,1.016 -5.715,1.016
Mechanical 1:
  circle w0.25: c0.003,-0.03 r0.463
  circle w0.25: c0.003,-0.03 r0.463
  lines w0.25: -51.054,-4.826 -46.736,-4.826 ; -50.8,7.366 -46.736,7.366 ; -48.768,-7.366 -48.768,-2.54 ; -48.768,5.08 -48.768,9.398 ; -37.211,-2.413 -31.115,-2.413 ; -37.211,4.191 -37.211,-1.778 ; -37.084,5.207 -31.115,5.207 ; -28.448,-9.906 -30.988,-9.906 ; -27.94,-6.477 -24.13,-6.477 -24.13,9.017 -27.94,9.017 -27.94,8.509 ; -22.098,-7.493 -17.907,-7.493 -17.907,10.033 -22.098,10.033 ; -17.907,-4.445 -12.573,-4.445 -12.573,6.985 -17.907,6.985 ; -12.573,-1.016 -5.715,-1.016 ; -12.573,1.016 -5.715,1.016 ; -12.573,3.429 -7.874,3.429 -7.874,7.747 ; -12.573,5.08 -9.906,5.08 -9.906,7.747 ; -10.006,7.289 cw(c-8.99,7.287) -7.974,7.287 ; -37.211,-1.778 -42.164,-1.778 -42.164,4.318 -37.211,4.318 -37.211,8.382 -30.988,8.382 ; -37.211,-1.778 -37.211,-5.842 -30.988,-5.842 ; -30.988,-9.906 -53.848,-9.906 -53.848,12.446 -51.308,12.446 -30.988,12.446 ; -30.988,-9.906 -30.988,-5.842 ; -30.988,-5.842 -30.988,8.382 ; -30.988,8.382 -30.988,12.446 ; -30.988,12.446 -28.448,12.446 -28.448,8.636 ; -28.448,8.636 -28.448,-19.05 -27.94,-19.05 -27.94,8.636 -28.448,8.636 ; -23.114,-9.906 -23.114,12.446 ; -23.114,-9.906 -23.114,12.446 ; -23.114,-9.906 -22.098,-9.906 -22.098,12.446 -23.114,12.446 ; -23.114,-9.906 -24.13,-9.906 -24.13,12.446 -23.114,12.446 ; -5.715,-1.016 -5.715,1.016 ; -5.715,-1.016 -4.191,-1.016 -3.937,-0.762 1.143,-0.762 1.27,-0.635 1.27,0.635 1.143,0.762 -3.937,0.762 -4.191,1.016 -5.715,1.016